# Altium footprint library MX25L25645GM2I-10G.PcbLib: 1 footprints
Each footprint in its own frame and in the unit in brackets; x right, y up, seen from the top. Pads: shape width x height; smd on the part's side, far side on the other; paste and mask are expansions set on the pad; w line width, h text height; cw(c..) or ccw(c..) is an arc to the next point about the centre after c.
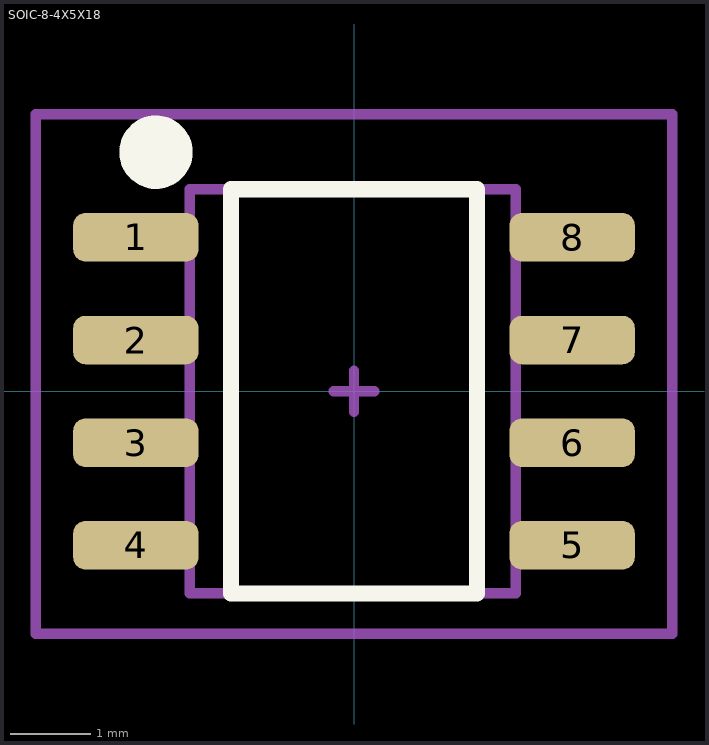
[diagram p0: the footprint, top view; thin cyan lines are the x and y axes]

## SOIC-8-4X5X18 [mm]
pads (8):
  rrect50% 1.55x0.6 smd: 1(-2.7,1.905) 2(-2.7,0.635) 3(-2.7,-0.635) 4(-2.7,-1.905) 5(2.7,-1.905) 6(2.7,-0.635) 7(2.7,0.635) 8(2.7,1.905)
Top Overlay:
  circle w0.508: c-2.45,2.959 r0.2
  lines w0.2: -1.524,-2.5 1.524,-2.5 1.524,2.5 -1.524,2.5 -1.524,-2.5
Top 3D Body:
  lines w0.127: -2.032,-2.5 -2.032,2.5 2,2.5 2,-2.5 -2.032,-2.5
Top Courtyard:
  lines w0.127: -0.254,0 0.254,0 ; 0,-0.254 0,0.254 ; -3.937,-3 3.937,-3 3.937,3.429 -3.937,3.429 -3.937,-3
3D body "User Library-so8-3.step": height 1.7, standoff 0, extent -3,-2.45 3,2.45